# Altium schematic symbol library 0679L0500-01.SchLib: 1 symbol
Pins are listed as number, name and electrical type; pins without a type are passive.

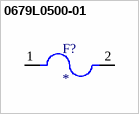
[diagram p0: symbol 0679L0500-01]

## 0679L0500-01
designator F?
2410 SMT Fuse | Quick Acting | 250mA | Higher AC Voltage; MP: 0679L0500-01; MF: {'manufacturer': u'Bel Fuse'}; Value: *; Price: None; Package: None; Availability: Unavailable
footprint FUSC6125X279N
pins: 1, 2